# Altium schematic symbol library ACDC.SchLib: 2 symbols
Pins are listed as number, name and electrical type; pins without a type are passive.

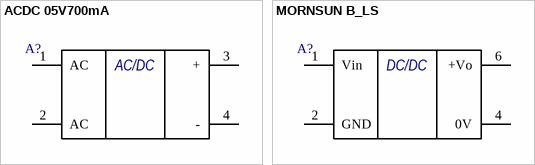
[diagram p0: symbols ACDC 05V700mA to MORNSUN B_LS]

## ACDC 05V700mA
designator A?  (value not drawn)
pins: 1 AC, 2 AC, 3 +, 4 -
text: AC/DC

## MORNSUN B_LS
designator A?  (value not drawn)
pins: 1 Vin, 2 GND, 4 0V, 6 +Vo
text: DC/DC